# Altium schematic symbol library SN74LVC2G241DCTR.SchLib: 2 symbols
Pins are listed as number, name and electrical type; pins without a type are passive.

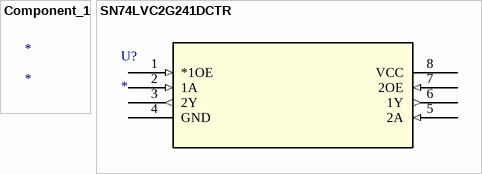
[diagram p0: symbols Component_1 to SN74LVC2G241DCTR]

## Component_1
designator *

## SN74LVC2G241DCTR
designator U?
No Description Available; Mfr_Name: Texas Instruments; RefDes: RefDes; Type: Type
footprint DCT8
pins: 1 *1OE (in), 2 1A (in), 3 2Y (out), 4 GND (power), 5 2A (in), 6 1Y (out), 7 2OE (in), 8 VCC (power)